# EAGLE library part CON-FPC (library SmartMDCPrint)
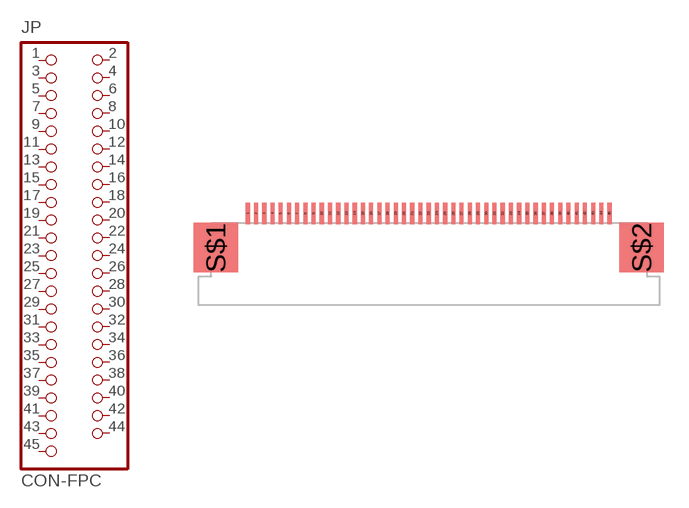
[diagram p4: symbol with the pads of FPC45; footprint FPC45]

Designator prefix JP

## CON-FPC45  [FPC45]
1  1  pas
2  2  pas
3  3  pas
4  4  pas
5  5  pas
6  6  pas
7  7  pas
8  8  pas
9  9  pas
10  10  pas
11  11  pas
12  12  pas
13  13  pas
14  14  pas
15  15  pas
16  16  pas
17  17  pas
18  18  pas
19  19  pas
20  20  pas
21  21  pas
22  22  pas
23  23  pas
24  24  pas
25  25  pas
26  26  pas
27  27  pas
28  28  pas
29  29  pas
30  30  pas
31  31  pas
32  32  pas
33  33  pas
34  34  pas
35  35  pas
36  36  pas
37  37  pas
38  38  pas
39  39  pas
40  40  pas
41  41  pas
42  42  pas
43  43  pas
44  44  pas
45  45  pas

## Footprint FPC45 (pad centres in mm)
smd 0.25 x 1.3: 1 -11,3.1; 2 -10.5,3.1; 3 -10,3.1; 4 -9.5,3.1; 5 -9,3.1; 6 -8.5,3.1; 7 -8,3.1; 8 -7.5,3.1; 9 -7,3.1; 10 -6.5,3.1; 11 -6,3.1; 12 -5.5,3.1; 13 -5,3.1; 14 -4.5,3.1; 15 -4,3.1; 16 -3.5,3.1; 17 -3,3.1; 18 -2.5,3.1; 19 -2,3.1; 20 -1.5,3.1; 21 -1,3.1; 22 -0.5,3.1; 23 0,3.1; 24 0.5,3.1; 25 1,3.1; 26 1.5,3.1; 27 2,3.1; 28 2.5,3.1; 29 3,3.1; 30 3.5,3.1; 31 4,3.1; 32 4.5,3.1; 33 5,3.1; 34 5.5,3.1; 35 6,3.1; 36 6.5,3.1; 37 7,3.1; 38 7.5,3.1; 39 8,3.1; 40 8.5,3.1; 41 9,3.1; 42 9.5,3.1; 43 10,3.1; 44 10.5,3.1; 45 11,3.1
smd 2.7 x 3: S$1 -12.95,1.02; S$2 12.95,1.02